# EAGLE library part MCP1725 (library user)
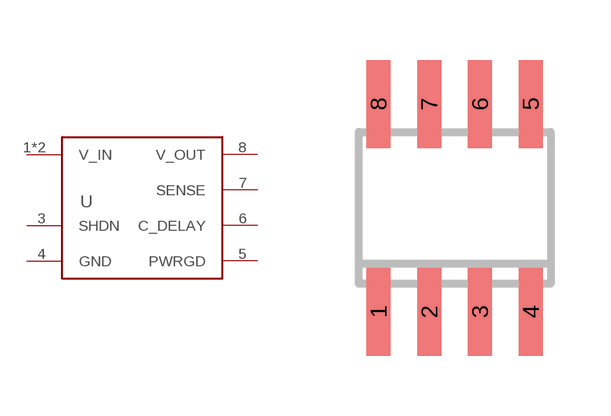
[diagram p2: symbol with the pads of SO08; footprint SO08]

Designator prefix -

## MCP1725  [SO08]
1  V_IN
2  V_IN
3  SHDN
4  GND
5  PWRGD
6  C_DELAY
7  SENSE
8  V_OUT

## Footprint SO08 (pad centres in mm)
Small Outline Package 8 NS Package M08A
smd 0.6 x 2.2: 1 -1.905,-2.6; 2 -0.635,-2.6; 3 0.635,-2.6; 4 1.905,-2.6; 5 1.905,2.6; 6 0.635,2.6; 7 -0.635,2.6; 8 -1.905,2.6